# Altium footprint library 常用模块.PcbLib: 6 footprints
Each footprint in its own frame and in the unit in brackets; x right, y up, seen from the top. Pads: shape width x height; smd on the part's side, far side on the other; paste and mask are expansions set on the pad; w line width, h text height; cw(c..) or ccw(c..) is an arc to the next point about the centre after c.
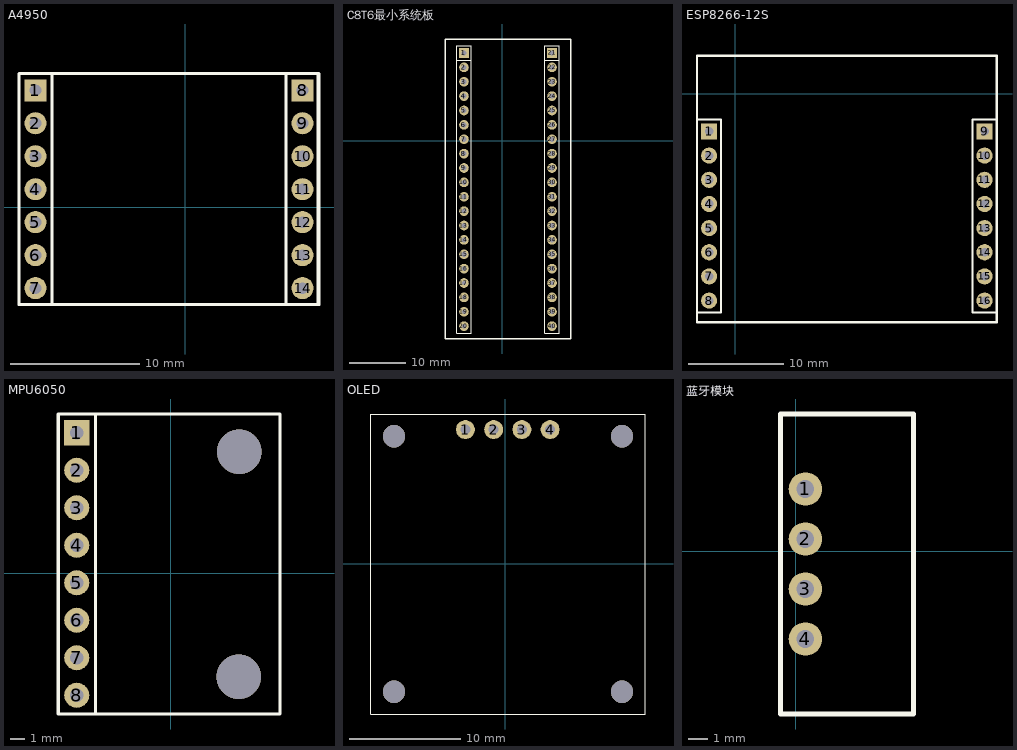
[diagram p0: the footprints below, top view; thin cyan lines are the x and y axes]

## A4950 [mm]
pads (14):
  rect 1.7x1.7 hole 0.9: 1(-11.557,9.017) 8(9.017,9.017)
  round 1.7 hole 0.9: 2(-11.557,6.477) 3(-11.557,3.937) 4(-11.557,1.397) 5(-11.557,-1.143) 6(-11.557,-3.683) 7(-11.557,-6.223) 9(9.017,6.477) 10(9.017,3.937) 11(9.017,1.397) 12(9.017,-1.143) 13(9.017,-3.683) 14(9.017,-6.223)
Top Overlay:
  lines w0.2: -10.265,-7.47 -12.805,-7.47 -12.805,10.31 -10.265,10.31 ; 7.714,-7.468 10.254,-7.468 10.254,10.312 7.714,10.312 ; -12.827,-7.493 -10.287,-7.493 -10.287,10.287 -12.827,10.287 -12.827,-7.493 ; 7.747,-7.493 10.287,-7.493 10.287,10.287 7.747,10.287 7.747,-7.493
  lines w0.254: -12.785,-7.48 10.215,-7.48 10.215,10.32 -12.785,10.32
3D body "HDR2.54-1P_M.STEP": height 8.5, standoff -3, extent 7.747,2.667 10.287,5.207
3D body "HDR2.54-1P_M.STEP": height 8.5, standoff -3, extent 7.747,7.747 10.287,10.287
3D body "HDR2.54-1P_M.STEP": height 8.5, standoff -3, extent 7.747,5.207 10.287,7.747
3D body "HDR2.54-1P_M.STEP": height 8.5, standoff -3, extent 7.747,-4.953 10.287,-2.413
3D body "HDR2.54-1P_M.STEP": height 8.5, standoff -3, extent 7.747,0.127 10.287,2.667
3D body "HDR2.54-1P_M.STEP": height 8.5, standoff -3, extent 7.747,-2.413 10.287,0.127
3D body "HDR2.54-1P_M.STEP": height 8.5, standoff -3, extent 7.747,-7.493 10.287,-4.953
3D body "HDR2.54-1P_M.STEP": height 8.5, standoff -3, extent -12.827,2.667 -10.287,5.207
3D body "HDR2.54-1P_M.STEP": height 8.5, standoff -3, extent -12.827,7.747 -10.287,10.287
3D body "HDR2.54-1P_M.STEP": height 8.5, standoff -3, extent -12.827,5.207 -10.287,7.747
3D body "HDR2.54-1P_M.STEP": height 8.5, standoff -3, extent -12.827,-4.953 -10.287,-2.413
3D body "HDR2.54-1P_M.STEP": height 8.5, standoff -3, extent -12.827,0.127 -10.287,2.667
3D body "HDR2.54-1P_M.STEP": height 8.5, standoff -3, extent -12.827,-2.413 -10.287,0.127
3D body "HDR2.54-1P_M.STEP": height 8.5, standoff -3, extent -12.827,-7.493 -10.287,-4.953

## C8T6最小系统板 [mm]
pads (40):
  rect 1.7x1.7 hole 0.9: 1(-6.73,15.53) 21(8.83,15.53)
  round 1.7 hole 0.9: 2(-6.73,12.99) 3(-6.73,10.45) 4(-6.73,7.91) 5(-6.73,5.37) 6(-6.73,2.83) 7(-6.73,0.29) 8(-6.73,-2.25) 9(-6.73,-4.79) 10(-6.73,-7.33) 11(-6.73,-9.87) 12(-6.73,-12.41) 13(-6.73,-14.95) 14(-6.73,-17.49) 15(-6.73,-20.03) 16(-6.73,-22.57) 22(8.83,12.99) 23(8.83,10.45) 24(8.83,7.91) 25(8.83,5.37) 26(8.83,2.83) 27(8.83,0.29) 28(8.83,-2.25) 29(8.83,-4.79) 30(8.83,-7.33) 31(8.83,-9.87) 32(8.83,-12.41) 33(8.83,-14.95) 34(8.83,-17.49) 35(8.83,-20.03) 36(8.83,-22.57)
  round 1.7 hole 0.762: 17(-6.73,-25.11) 18(-6.73,-27.65) 19(-6.73,-30.19) 20(-6.73,-32.73) 37(8.83,-25.11) 38(8.83,-27.65) 39(8.83,-30.19) 40(8.83,-32.73)
Top Overlay:
  lines w0.2: -7.98,14.28 -5.48,14.28 ; 7.58,14.28 10.08,14.28 ; -8,-34 -5.46,-34 -5.46,14.895 -5.46,16.8 -8,16.8 -8,-34 ; 7.56,-34 10.1,-34 10.1,14.895 10.1,16.8 7.56,16.8 7.56,-34
  lines w0.254: -10,-35 12.1,-35 12.1,18 -10,18 -10,-35
3D body "HDR2.54-1P_M.STEP": height 8.5, standoff -3, extent -8,-23.84 -5.46,-21.3
3D body "HDR2.54-1P_M.STEP": height 8.5, standoff -3, extent -8,-26.38 -5.46,-23.84
3D body "HDR2.54-1P_M.STEP": height 8.5, standoff -3, extent -8,-28.92 -5.46,-26.38
3D body "HDR2.54-1P_M.STEP": height 8.5, standoff -3, extent -8,-31.46 -5.46,-28.92
3D body "HDR2.54-1P_M.STEP": height 8.5, standoff -3, extent -8,-34 -5.46,-31.46
3D body "HDR2.54-1P_M.STEP": height 8.5, standoff -3, extent -8,-11.14 -5.46,-8.6
3D body "HDR2.54-1P_M.STEP": height 8.5, standoff -3, extent -8,-13.68 -5.46,-11.14
3D body "HDR2.54-1P_M.STEP": height 8.5, standoff -3, extent -8,-16.22 -5.46,-13.68
3D body "HDR2.54-1P_M.STEP": height 8.5, standoff -3, extent -8,-18.76 -5.46,-16.22
3D body "HDR2.54-1P_M.STEP": height 8.5, standoff -3, extent -8,-21.3 -5.46,-18.76
3D body "HDR2.54-1P_M.STEP": height 8.5, standoff -3, extent -8,1.56 -5.46,4.1
3D body "HDR2.54-1P_M.STEP": height 8.5, standoff -3, extent -8,-0.98 -5.46,1.56
3D body "HDR2.54-1P_M.STEP": height 8.5, standoff -3, extent -8,-3.52 -5.46,-0.98
3D body "HDR2.54-1P_M.STEP": height 8.5, standoff -3, extent -8,-6.06 -5.46,-3.52
3D body "HDR2.54-1P_M.STEP": height 8.5, standoff -3, extent -8,-8.6 -5.46,-6.06
3D body "HDR2.54-1P_M.STEP": height 8.5, standoff -3, extent -8,14.26 -5.46,16.8
3D body "HDR2.54-1P_M.STEP": height 8.5, standoff -3, extent -8,11.72 -5.46,14.26
3D body "HDR2.54-1P_M.STEP": height 8.5, standoff -3, extent -8,9.18 -5.46,11.72
3D body "HDR2.54-1P_M.STEP": height 8.5, standoff -3, extent -8,6.64 -5.46,9.18
3D body "HDR2.54-1P_M.STEP": height 8.5, standoff -3, extent -8,4.1 -5.46,6.64
3D body "HDR2.54-1P_M.STEP": height 8.5, standoff -3, extent 7.56,-23.84 10.1,-21.3
3D body "HDR2.54-1P_M.STEP": height 8.5, standoff -3, extent 7.56,-26.38 10.1,-23.84
3D body "HDR2.54-1P_M.STEP": height 8.5, standoff -3, extent 7.56,-28.92 10.1,-26.38
3D body "HDR2.54-1P_M.STEP": height 8.5, standoff -3, extent 7.56,-31.46 10.1,-28.92
3D body "HDR2.54-1P_M.STEP": height 8.5, standoff -3, extent 7.56,-34 10.1,-31.46
3D body "HDR2.54-1P_M.STEP": height 8.5, standoff -3, extent 7.56,-11.14 10.1,-8.6
3D body "HDR2.54-1P_M.STEP": height 8.5, standoff -3, extent 7.56,-13.68 10.1,-11.14
3D body "HDR2.54-1P_M.STEP": height 8.5, standoff -3, extent 7.56,-16.22 10.1,-13.68
3D body "HDR2.54-1P_M.STEP": height 8.5, standoff -3, extent 7.56,-18.76 10.1,-16.22
3D body "HDR2.54-1P_M.STEP": height 8.5, standoff -3, extent 7.56,-21.3 10.1,-18.76
3D body "HDR2.54-1P_M.STEP": height 8.5, standoff -3, extent 7.56,1.56 10.1,4.1
3D body "HDR2.54-1P_M.STEP": height 8.5, standoff -3, extent 7.56,-0.98 10.1,1.56
3D body "HDR2.54-1P_M.STEP": height 8.5, standoff -3, extent 7.56,-3.52 10.1,-0.98
3D body "HDR2.54-1P_M.STEP": height 8.5, standoff -3, extent 7.56,-6.06 10.1,-3.52
3D body "HDR2.54-1P_M.STEP": height 8.5, standoff -3, extent 7.56,-8.6 10.1,-6.06
3D body "HDR2.54-1P_M.STEP": height 8.5, standoff -3, extent 7.56,14.26 10.1,16.8
3D body "HDR2.54-1P_M.STEP": height 8.5, standoff -3, extent 7.56,11.72 10.1,14.26
3D body "HDR2.54-1P_M.STEP": height 8.5, standoff -3, extent 7.56,9.18 10.1,11.72
3D body "HDR2.54-1P_M.STEP": height 8.5, standoff -3, extent 7.56,6.64 10.1,9.18
3D body "HDR2.54-1P_M.STEP": height 8.5, standoff -3, extent 7.56,4.1 10.1,6.64

## ESP8266-12S [mm]
pads (16):
  rect 1.7x1.7 hole 0.9: 1(-2.73,-3.95) 9(26.23,-3.95)
  round 1.7 hole 0.9: 2(-2.73,-6.49) 3(-2.73,-9.03) 4(-2.73,-11.57) 5(-2.73,-14.11) 6(-2.73,-16.65) 7(-2.73,-19.19) 8(-2.73,-21.73) 10(26.23,-6.49) 11(26.23,-9.03) 12(26.23,-11.57) 13(26.23,-14.11) 14(26.23,-16.65) 15(26.23,-19.19) 16(26.23,-21.73)
Top Overlay:
  lines w0.2: 25,-23 27.54,-23 ; -4,-23 -1.46,-23 -1.46,-2.68 -4,-2.68 -4,-23 ; 24.96,-23 24.96,-2.68 27.5,-2.68 27.5,-23 24.96,-23
  lines w0.254: -4,-24 27.5,-24 27.5,4 -4,4 -4,-24
3D body "HDR2.54-1P_M.STEP": height 8.5, standoff -3, extent -4,-23 -1.46,-20.46
3D body "HDR2.54-1P_M.STEP": height 8.5, standoff -3, extent -4,-10.3 -1.46,-7.76
3D body "HDR2.54-1P_M.STEP": height 8.5, standoff -3, extent -4,-5.22 -1.46,-2.68
3D body "HDR2.54-1P_M.STEP": height 8.5, standoff -3, extent -4,-7.76 -1.46,-5.22
3D body "HDR2.54-1P_M.STEP": height 8.5, standoff -3, extent -4,-17.92 -1.46,-15.38
3D body "HDR2.54-1P_M.STEP": height 8.5, standoff -3, extent -4,-12.84 -1.46,-10.3
3D body "HDR2.54-1P_M.STEP": height 8.5, standoff -3, extent -4,-15.38 -1.46,-12.84
3D body "HDR2.54-1P_M.STEP": height 8.5, standoff -3, extent -4,-20.46 -1.46,-17.92
3D body "HDR2.54-1P_M.STEP": height 8.5, standoff -3, extent 24.96,-20.46 27.5,-17.92
3D body "HDR2.54-1P_M.STEP": height 8.5, standoff -3, extent 24.96,-15.38 27.5,-12.84
3D body "HDR2.54-1P_M.STEP": height 8.5, standoff -3, extent 24.96,-12.84 27.5,-10.3
3D body "HDR2.54-1P_M.STEP": height 8.5, standoff -3, extent 24.96,-17.92 27.5,-15.38
3D body "HDR2.54-1P_M.STEP": height 8.5, standoff -3, extent 24.96,-7.76 27.5,-5.22
3D body "HDR2.54-1P_M.STEP": height 8.5, standoff -3, extent 24.96,-5.22 27.5,-2.68
3D body "HDR2.54-1P_M.STEP": height 8.5, standoff -3, extent 24.96,-10.3 27.5,-7.76
3D body "HDR2.54-1P_M.STEP": height 8.5, standoff -3, extent 24.96,-23 27.5,-20.46

## MPU6050 [mm]
pads (8):
  rect 1.7x1.7 hole 0.9: 1(-6.35,9.525)
  round 1.7 hole 0.9: 2(-6.35,6.985) 3(-6.35,4.445) 4(-6.35,1.905) 5(-6.35,-0.635) 6(-6.35,-3.175) 7(-6.35,-5.715) 8(-6.35,-8.255)
via 4.62,-7 diameter 3 hole 3
via 4.65,8.25 diameter 3 hole 3
Top Overlay:
  lines w0.2: -7.62,-9.525 -7.62,10.795 -5.08,10.795 -5.08,-9.525 -7.62,-9.525 ; -7.598,-9.522 7.414,-9.522 7.414,10.798 -7.598,10.798 -7.598,-9.522
3D body "HDR2.54-1P_M.STEP": height 8.5, standoff -3, extent -7.62,-6.985 -5.08,-4.445
3D body "HDR2.54-1P_M.STEP": height 8.5, standoff -3, extent -7.62,-1.905 -5.08,0.635
3D body "HDR2.54-1P_M.STEP": height 8.5, standoff -3, extent -7.62,0.635 -5.08,3.175
3D body "HDR2.54-1P_M.STEP": height 8.5, standoff -3, extent -7.62,-4.445 -5.08,-1.905
3D body "HDR2.54-1P_M.STEP": height 8.5, standoff -3, extent -7.62,5.715 -5.08,8.255
3D body "HDR2.54-1P_M.STEP": height 8.5, standoff -3, extent -7.62,8.255 -5.08,10.795
3D body "HDR2.54-1P_M.STEP": height 8.5, standoff -3, extent -7.62,3.175 -5.08,5.715
3D body "HDR2.54-1P_M.STEP": height 8.5, standoff -3, extent -7.62,-9.525 -5.08,-6.985

## OLED [mm]
pads (4):
  round 1.7 hole 0.9: 1(-3.58,12.1) 2(-1.04,12.1) 3(1.5,12.1) 4(4.04,12.1)
via 10.5,11.5 diameter 2 hole 2
via -10,11.5 diameter 2 hole 2
via -10,-11.5 diameter 2 hole 2
via 10.5,-11.5 diameter 2 hole 2
Top Overlay:
  lines w0.1: -12.1,-13.5 12.6,-13.5 12.6,13.5 -12.1,13.5 -12.1,-13.5
3D body "HDR2.54-1P_M.STEP": height 8.5, standoff -3, extent 2.77,10.83 5.31,13.37
3D body "HDR2.54-1P_M.STEP": height 8.5, standoff -3, extent 0.23,10.83 2.77,13.37
3D body "HDR2.54-1P_M.STEP": height 8.5, standoff -3, extent -4.85,10.83 -2.31,13.37
3D body "HDR2.54-1P_M.STEP": height 8.5, standoff -3, extent -2.31,10.83 0.23,13.37

## 蓝牙模块 [mm]
pads (4):
  round 1.7 hole 0.9: 1(0.5,3.16) 2(0.5,0.62) 3(0.5,-1.92) 4(0.5,-4.46)
Top Overlay:
  lines w0.254: -0.77,-8.27 -0.77,6.97 6,6.97 6,-8.27 -0.77,-8.27
3D body "HDR2.54-1P_M.STEP": height 8.5, standoff -3, extent -0.77,-0.65 1.77,1.89
3D body "HDR2.54-1P_M.STEP": height 8.5, standoff -3, extent -0.77,1.89 1.77,4.43
3D body "HDR2.54-1P_M.STEP": height 8.5, standoff -3, extent -0.77,-3.19 1.77,-0.65
3D body "HDR2.54-1P_M.STEP": height 8.5, standoff -3, extent -0.77,-5.73 1.77,-3.19